# EAGLE library part V1000 (library jason_eagle6)
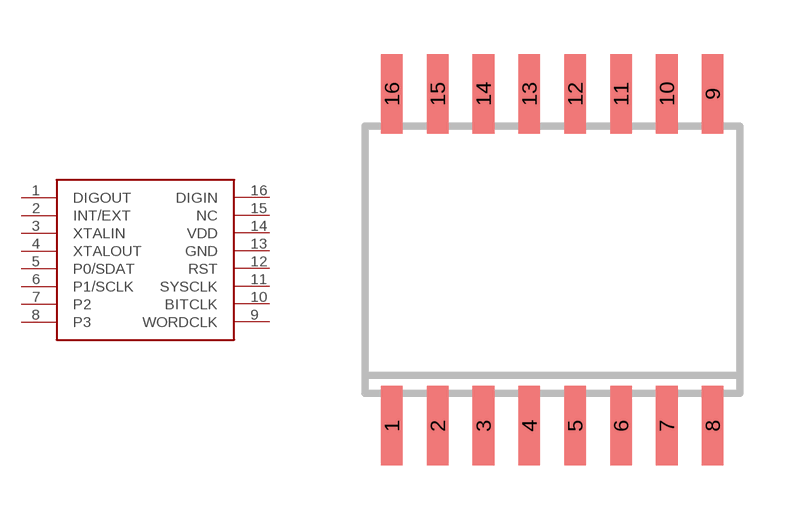
[diagram p39: symbol with the pads of SO16W; footprint SO16W]

Designator prefix -

## V1000  [SO16W]
1  DIGOUT
2  INT/EXT
3  XTALIN
4  XTALOUT
5  P0/SDAT
6  P1/SCLK
7  P2
8  P3
9  WORDCLK
10  BITCLK
11  SYSCLK
12  RST
13  GND
14  VDD
15  NC
16  DIGIN

## Footprint SO16W (pad centres in mm)
SMALL OUTLINE INTEGRATED CIRCUIT wide body 7.5 mm/JEDEC MS-013AA
smd 0.6 x 2.2: 1 -4.445,-4.6; 2 -3.175,-4.6; 3 -1.905,-4.6; 4 -0.635,-4.6; 5 0.635,-4.6; 6 1.905,-4.6; 7 3.175,-4.6; 8 4.445,-4.6; 9 4.445,4.6; 10 3.175,4.6; 11 1.905,4.6; 12 0.635,4.6; 13 -0.635,4.6; 14 -1.905,4.6; 15 -3.175,4.6; 16 -4.445,4.6